# Altium footprint library MMT-110-02-S-DH.PcbLib: 1 footprints
Each footprint in its own frame and in the unit in brackets; x right, y up, seen from the top. Pads: shape width x height; smd on the part's side, far side on the other; paste and mask are expansions set on the pad; w line width, h text height; cw(c..) or ccw(c..) is an arc to the next point about the centre after c.
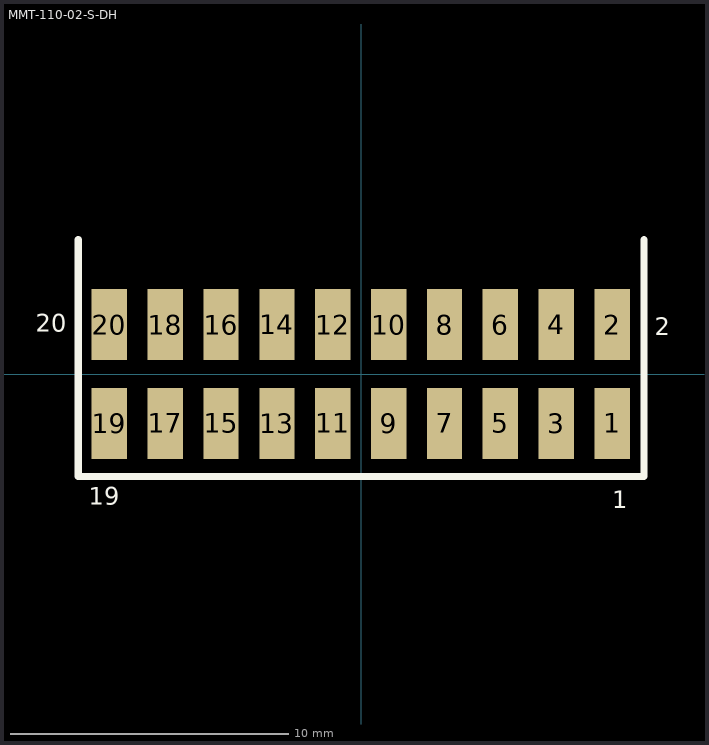
[diagram p0: the footprint, top view; thin cyan lines are the x and y axes]

## MMT-110-02-S-DH [mil]
pads (20):
  rect 50x100 smd: 1(355,-70) 2(355,70) 3(276,-70) 4(276,70) 5(197,-70) 6(197,70) 7(118,-70) 8(118,70) 9(39,-70) 10(39,70) 11(-40,-70) 12(-40,70) 13(-119,-70) 14(-119,70) 15(-198,-70) 16(-198,70) 17(-277,-70) 18(-277,70) 19(-356,-70) 20(-356,70)
TopOverlay:
  lines w10: -400,190 -400,-145 -395,-145 400,-145 400,190
  text "1" at 355,-190 h25
  text "2" at 415,55 h25
  text "20" at -460,60 h25
  text "19" at -385,-185 h25
3D body: height 158.11, standoff 0.63, extent -395.12,-91.55 392.28,407.19